# Altium footprint library SWITCH_ROTARY.PcbLib: 16 footprints
Each footprint in its own frame and in the unit in brackets; x right, y up, seen from the top. Pads: shape width x height; smd on the part's side, far side on the other; paste and mask are expansions set on the pad; w line width, h text height; cw(c..) or ccw(c..) is an arc to the next point about the centre after c.
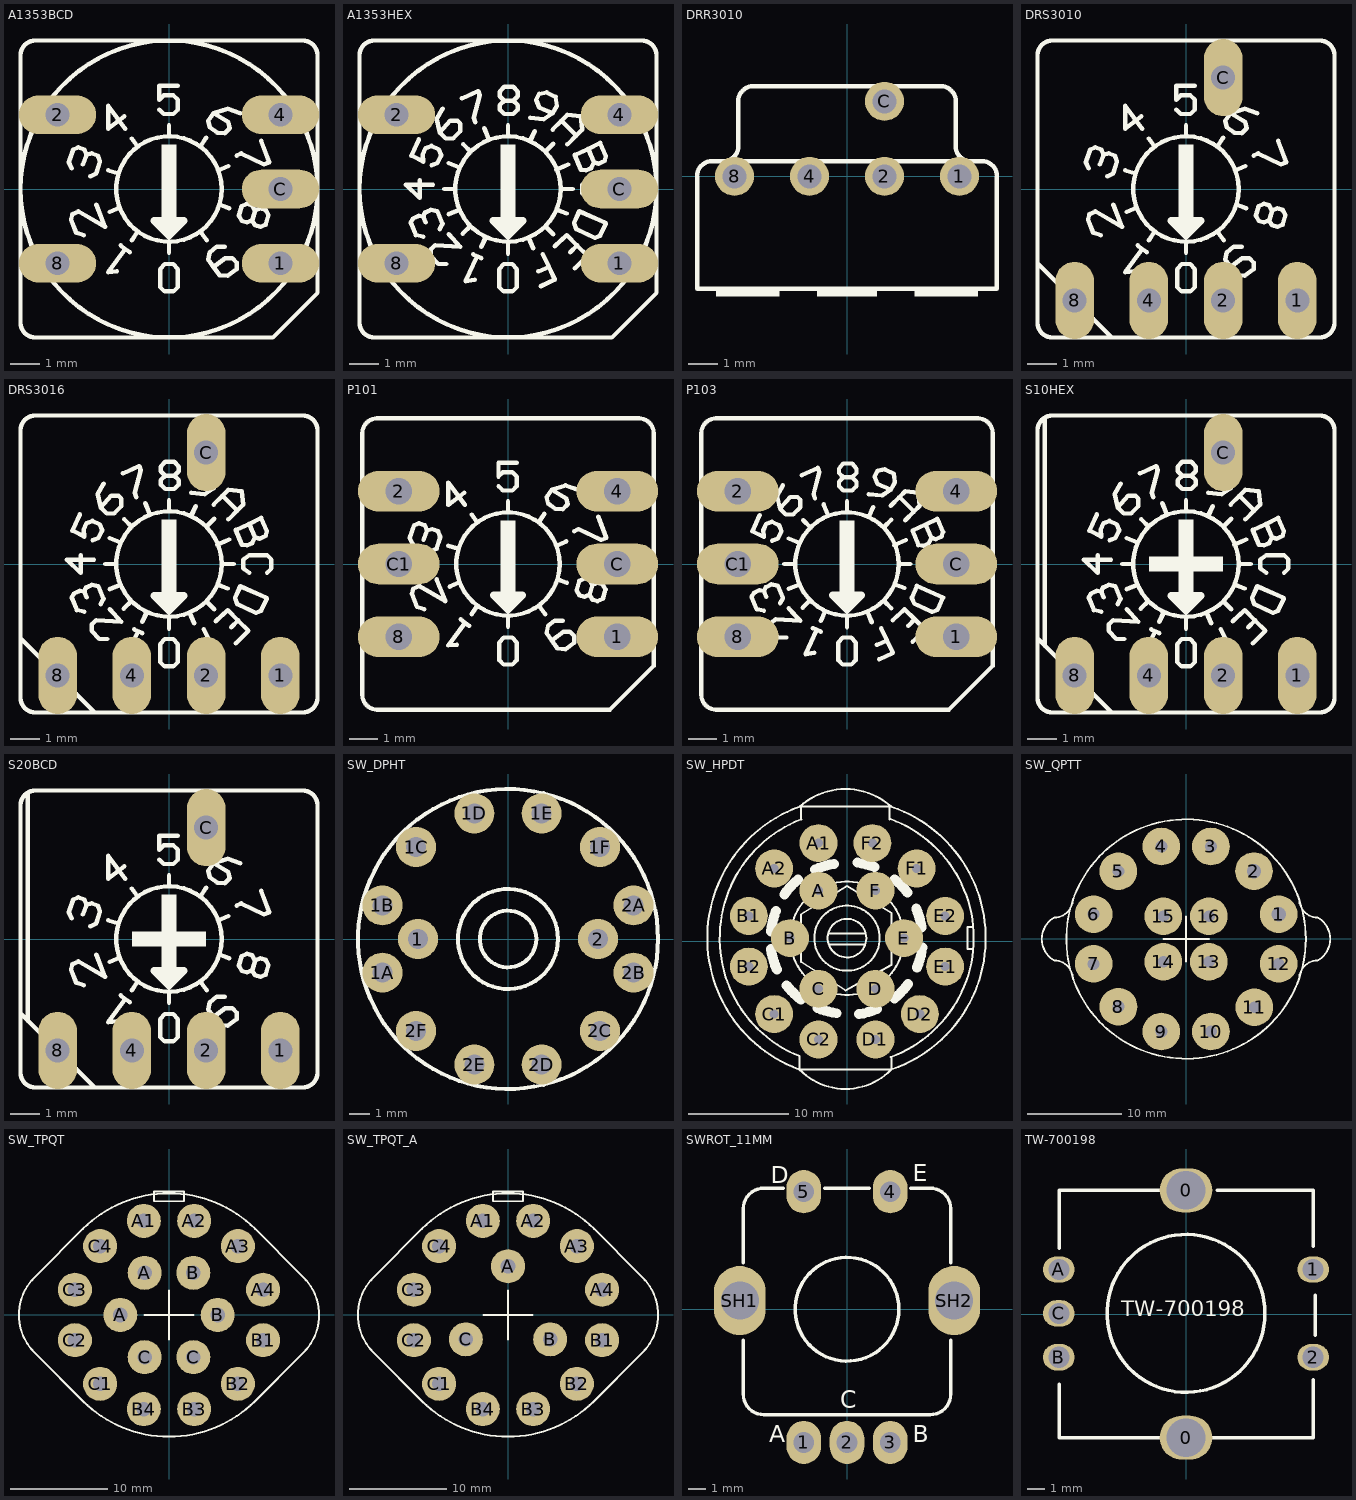
[diagram p0: the footprints below, top view; thin cyan lines are the x and y axes]

## A1353BCD [mil]
pads (5):
  oval 104x52 hole 32: 1(150,-100) 2(-150,100) 4(150,100) 8(-150,-100) C(150,0)
Top Overlay:
  circle w6: c0,0 r71
  circle w6: c0,0 r200
  rectangle: -10,-40 10,60
  lines w6: -131,28 -135,36 -129,53 -122,56 -114,53 -111,46 ; -116,33 -111,46 ; -115,-62 -125,-59 -132,-41 -130,-34 -122,-30 -86,-51 -98,-21 ; -106,17 -98,21 -93,37 -96,45 -104,48 -111,46 ; -82,25 -68,21 ; -80,-31 -66,-25 ; -70,-111 -82,-112 -59,-81 ; -65,-76 -59,-81 ; -60,98 -82,81 -82,112 -59,81 ; -53,-85 -59,-81 ; -50,-69 -42,-57 ; -50,68 -42,57 ; -13,107 -7,101 6,101 12,107 12,120 6,126 -7,126 -13,120 -13,139 12,139 ; 0,-86 0,-72 ; 0,71 0,86 ; 42,-57 51,-69 ; 42,57 50,69 ; 66,25 80,31 ; 68,-21 81,-26 ; 75,-78 64,-78 55,-85 53,-95 60,-105 ; 91,45 97,48 128,33 135,36 124,65 ; 96,102 79,108 60,102 ; 60,-105 76,-93 85,-93 91,-99 91,-108 79,-117 68,-116 60,-105 ; 60,102 80,90 82,82 75,75 65,76 55,83 53,92 60,102 ; 112,-42 116,-29 ; 112,-42 105,-45 98,-43 94,-36 98,-23 105,-20 112,-22 116,-29 ; 112,-42 116,-49 123,-51 130,-48 134,-35 130,-28 123,-26 116,-29 ; -200,-180 ccw(c-180,-180) -180,-200 140,-200 200,-140 200,180 ccw(c180,180) 180,200 -180,200 ccw(c-180,180) -200,180 -200,-180 ; -12,-132 -12,-108 -6,-101 6,-101 12,-108 12,-132 6,-138 -6,-138 -12,-132
  lines w10: -10,-48 10,-48 ; 0,-58 0,-53 ; -20,-43 0,-63 20,-43 -20,-43

## A1353HEX [mil]
pads (5):
  oval 104x52 hole 32: 1(150,-100) 2(-150,100) 4(150,100) 8(-150,-100) C(150,0)
Top Overlay:
  circle w6: c0,0 r200
  circle w6: c0,0 r71
  rectangle: -10,-40 10,60
  lines w6: -120,67 -130,45 -114,37 -115,46 -111,55 -103,58 -93,53 -90,45 -95,35 -103,32 ; -119,12 -119,-12 -138,6 -101,6 ; -114,-64 -124,-62 -131,-45 -128,-40 -120,-36 -114,-37 ; -111,-45 -114,-37 ; -92,-54 -88,-47 -95,-30 -104,-28 -112,-32 -114,-37 ; -88,108 -96,94 -92,76 ; -86,0 -71,0 ; -83,-101 -94,-101 -104,-90 -104,-81 -98,-76 -64,-78 -80,-61 ; -80,-34 -65,-28 ; -80,35 -65,29 ; -62,122 -40,132 -38,126 -46,96 -44,90 ; -61,-60 -51,-50 ; -60,60 -50,50 ; -47,-88 -36,-93 ; -45,-122 -57,-124 -42,-91 ; -36,-78 -30,-65 ; -32,82 -26,67 ; 0,-87 0,-72 ; 0,71 0,86 ; 28,-66 34,-80 ; 30,65 36,78 ; 30,96 48,94 60,102 ; 41,-111 55,-105 ; 44,-131 63,-122 55,-105 ; 47,-88 55,-105 ; 51,-51 61,-61 ; 51,51 61,61 ; 60,80 72,92 ; 63,-77 79,-62 93,-76 ; 65,26 81,33 ; 66,-28 79,-33 ; 72,0 87,0 ; 80,60 92,72 ; 84,-85 93,-76 ; 90,-107 107,-90 93,-76 ; 108,-12 100,-6 100,6 108,12 132,12 138,6 138,-6 132,-12 ; -92,76 -84,68 -74,68 -64,78 -64,88 -68,92 -78,92 -92,76 ; -5,119 7,119 ; -5,119 -11,113 -11,107 -5,101 7,101 13,107 13,113 7,119 ; -5,119 -11,125 -11,131 -5,138 7,138 13,131 13,125 7,119 ; 60,102 66,112 64,124 52,130 42,128 38,120 42,110 60,102 ; 72,92 80,100 98,98 100,80 92,72 ; 72,92 92,72 ; 108,54 124,62 132,44 130,38 122,34 116,36 ; 108,54 116,36 ; 108,54 90,46 98,26 105,25 112,28 116,36 ; -200,-180 ccw(c-180,-180) -180,-200 140,-200 200,-140 200,180 ccw(c180,180) 180,200 -180,200 ccw(c-180,180) -200,180 -200,-180 ; -12,-132 -6,-138 6,-138 12,-132 12,-108 6,-101 -6,-101 -12,-108 -12,-132 ; 89,-46 92,-54 117,-66 124,-63 132,-46 96,-30 89,-46
  lines w10: -10,-48 10,-48 ; 0,-58 0,-53 ; -20,-43 20,-43 0,-63 -20,-43

## DRR3010 [mil]
pads (5):
  round 52 hole 32: 1(150,0) 2(50,0) 4(-50,0) 8(-150,0) C(50,100)
Top Overlay:
  rectangle: -40,-160 40,-150
  rectangle: 90,-160 175,-150
  rectangle: -175,-160 -90,-150
  lines w6: -165,20 ccw(c-165,40) -145,40 -145,100 cw(c-125,100) -125,120 15,120 85,120 125,120 cw(c125,100) 145,100 145,40 ccw(c165,40) 165,20 ; -200,-150 200,-150 200,0 ccw(c180,0) 180,20 120,20 80,20 20,20 -20,20 -80,20 -120,20 -180,20 ccw(c-180,0) -200,0 -200,-150

## DRS3010 [mil]
pads (5):
  oval 52x104 hole 32: 1(150,-150) 2(50,-150) 4(-50,-150) 8(-150,-150) C(50,150)
Top Overlay:
  circle w6: c0,0 r71
  rectangle: -10,-40 10,60
  lines w6: -131,28 -135,36 -129,53 -122,56 -114,53 -111,46 ; -116,33 -111,46 ; -115,-62 -125,-59 -132,-41 -130,-34 -122,-30 -86,-51 -98,-21 ; -106,17 -98,21 -93,37 -96,45 -104,48 -111,46 ; -82,25 -68,21 ; -80,-31 -66,-25 ; -70,-111 -82,-112 -59,-81 ; -65,-76 -59,-81 ; -60,98 -82,81 -82,112 -59,81 ; -53,-85 -59,-81 ; -50,-69 -42,-57 ; -50,68 -42,57 ; -13,107 -7,101 6,101 12,107 12,120 6,126 -7,126 -13,120 -13,139 12,139 ; 0,-86 0,-72 ; 0,71 0,86 ; 42,-57 51,-69 ; 42,57 50,69 ; 66,25 80,31 ; 68,-21 81,-26 ; 75,-78 64,-78 55,-85 53,-95 60,-105 ; 91,45 97,48 128,33 135,36 124,65 ; 96,102 79,108 60,102 ; -200,-100 -200,-180 ccw(c-180,-180) -180,-200 -100,-200 ; -200,-100 -200,180 cw(c-180,180) -180,200 180,200 cw(c180,180) 200,180 200,-180 cw(c180,-180) 180,-200 -100,-200 ; -200,-100 -175,-125 -125,-175 -100,-200 ; 60,-105 76,-93 85,-93 91,-99 91,-108 79,-117 68,-116 60,-105 ; 60,102 80,90 82,82 75,75 65,76 55,83 53,92 60,102 ; 112,-42 116,-29 ; 112,-42 105,-45 98,-43 94,-36 98,-23 105,-20 112,-22 116,-29 ; 112,-42 116,-49 123,-51 130,-48 134,-35 130,-28 123,-26 116,-29 ; -12,-132 -12,-108 -6,-101 6,-101 12,-108 12,-132 6,-138 -6,-138 -12,-132
  lines w10: -10,-48 10,-48 ; 0,-58 0,-53 ; -20,-43 0,-63 20,-43 -20,-43

## DRS3016 [mil]
pads (5):
  oval 52x104 hole 32: 1(150,-150) 2(50,-150) 4(-50,-150) 8(-150,-150) C(50,150)
Top Overlay:
  drawing of 153 lines, arcs and shapes, not listed

## P101 [mil]
pads (6):
  oval 112x56 hole 36: 1(150,-100) 2(-150,100) 4(150,100) 8(-150,-100) C(150,0) C1(-150,0)
Top Overlay:
  circle w6: c0,0 r71
  rectangle: -10,-40 10,60
  lines w6: -131,28 -135,36 -129,53 -122,56 -114,53 -111,46 ; -116,33 -111,46 ; -115,-62 -125,-59 -132,-41 -130,-34 -122,-30 -86,-51 -98,-21 ; -106,17 -98,21 -93,37 -96,45 -104,48 -111,46 ; -82,25 -68,21 ; -80,-31 -66,-25 ; -70,-111 -82,-112 -59,-81 ; -65,-76 -59,-81 ; -60,98 -82,81 -82,112 -59,81 ; -53,-85 -59,-81 ; -50,-69 -42,-57 ; -50,68 -42,57 ; -13,107 -7,101 6,101 12,107 12,120 6,126 -7,126 -13,120 -13,139 12,139 ; 0,-86 0,-72 ; 0,71 0,86 ; 42,-57 51,-69 ; 42,57 50,69 ; 66,25 80,31 ; 68,-21 81,-26 ; 75,-78 64,-78 55,-85 53,-95 60,-105 ; 91,45 97,48 128,33 135,36 124,65 ; 96,102 79,108 60,102 ; 60,-105 68,-116 79,-117 91,-108 91,-99 85,-93 76,-93 60,-105 ; 60,102 53,92 55,83 65,76 75,75 82,82 80,90 60,102 ; 112,-42 116,-49 123,-51 130,-48 134,-35 130,-28 123,-26 116,-29 ; 112,-42 105,-45 98,-43 94,-36 98,-23 105,-20 112,-22 116,-29 ; 112,-42 116,-29 ; -200,-180 ccw(c-180,-180) -180,-200 140,-200 200,-140 200,180 ccw(c180,180) 180,200 -180,200 ccw(c-180,180) -200,180 -200,-180 ; -12,-132 -6,-138 6,-138 12,-132 12,-108 6,-101 -6,-101 -12,-108 -12,-132
  lines w10: -10,-48 10,-48 ; 0,-58 0,-53 ; -20,-43 20,-43 0,-63 -20,-43

## P103 [mil]
pads (6):
  oval 112x56 hole 36: 1(150,-100) 2(-150,100) 4(150,100) 8(-150,-100) C(150,0) C1(-150,0)
Top Overlay:
  circle w6: c0,0 r71
  rectangle: -10,-40 10,60
  lines w6: -120,67 -130,45 -114,37 -115,46 -111,55 -103,58 -93,53 -90,45 -95,35 -103,32 ; -119,12 -119,-12 -138,6 -101,6 ; -114,-64 -124,-62 -131,-45 -128,-40 -120,-36 -114,-37 ; -111,-45 -114,-37 ; -92,-54 -88,-47 -95,-30 -104,-28 -112,-32 -114,-37 ; -88,108 -96,94 -92,76 ; -86,0 -71,0 ; -83,-101 -94,-101 -104,-90 -104,-81 -98,-76 -64,-78 -80,-61 ; -80,-34 -65,-28 ; -80,35 -65,29 ; -62,122 -40,132 -38,126 -46,96 -44,90 ; -61,-60 -51,-50 ; -60,60 -50,50 ; -47,-88 -36,-93 ; -45,-122 -57,-124 -42,-91 ; -36,-78 -30,-65 ; -32,82 -26,67 ; 0,-87 0,-72 ; 0,71 0,86 ; 28,-66 34,-80 ; 30,65 36,78 ; 30,96 48,94 60,102 ; 41,-111 55,-105 ; 44,-131 63,-122 55,-105 ; 47,-88 55,-105 ; 51,-51 61,-61 ; 51,51 61,61 ; 60,80 72,92 ; 63,-77 79,-62 93,-76 ; 65,26 81,33 ; 66,-28 79,-33 ; 72,0 87,0 ; 80,60 92,72 ; 84,-85 93,-76 ; 90,-107 107,-90 93,-76 ; 108,-12 100,-6 100,6 108,12 132,12 138,6 138,-6 132,-12 ; -92,76 -84,68 -74,68 -64,78 -64,88 -68,92 -78,92 -92,76 ; -5,119 7,119 ; -5,119 -11,113 -11,107 -5,101 7,101 13,107 13,113 7,119 ; -5,119 -11,125 -11,131 -5,138 7,138 13,131 13,125 7,119 ; 60,102 66,112 64,124 52,130 42,128 38,120 42,110 60,102 ; 72,92 80,100 98,98 100,80 92,72 ; 72,92 92,72 ; 108,54 124,62 132,44 130,38 122,34 116,36 ; 108,54 116,36 ; 108,54 90,46 98,26 105,25 112,28 116,36 ; -200,-180 ccw(c-180,-180) -180,-200 140,-200 200,-140 200,180 ccw(c180,180) 180,200 -180,200 ccw(c-180,180) -200,180 -200,-180 ; -12,-132 -6,-138 6,-138 12,-132 12,-108 6,-101 -6,-101 -12,-108 -12,-132 ; 89,-46 92,-54 117,-66 124,-63 132,-46 96,-30 89,-46
  lines w10: -10,-48 10,-48 ; 0,-58 0,-53 ; -20,-43 20,-43 0,-63 -20,-43

## S10HEX [mil]
pads (5):
  oval 52x104 hole 32: 1(150,-150) 2(50,-150) 4(-50,-150) 8(-150,-150) C(50,150)
Top Overlay:
  drawing of 156 lines, arcs and shapes, not listed

## S20BCD [mil]
pads (5):
  oval 52x104 hole 32: 1(150,-150) 2(50,-150) 4(-50,-150) 8(-150,-150) C(50,150)
Top Overlay:
  circle w6: c0,0 r71
  rectangle: -50,-10 50,10
  rectangle: -10,-40 10,60
  lines w6: -190,195 -190,-110 ; -131,28 -135,36 -129,53 -122,56 -114,53 -111,46 ; -116,33 -111,46 ; -115,-62 -125,-59 -132,-41 -130,-34 -122,-30 -86,-51 -98,-21 ; -106,17 -98,21 -93,37 -96,45 -104,48 -111,46 ; -82,25 -68,21 ; -80,-31 -66,-25 ; -70,-111 -82,-112 -59,-81 ; -65,-76 -59,-81 ; -60,98 -82,81 -82,112 -59,81 ; -53,-85 -59,-81 ; -50,-69 -42,-57 ; -50,68 -42,57 ; -13,107 -7,101 6,101 12,107 12,120 6,126 -7,126 -13,120 -13,139 12,139 ; 0,-86 0,-72 ; 0,71 0,86 ; 42,-57 51,-69 ; 42,57 50,69 ; 66,25 80,31 ; 68,-21 81,-26 ; 75,-78 64,-78 55,-85 53,-95 60,-105 ; 91,45 97,48 128,33 135,36 124,65 ; 96,102 79,108 60,102 ; -200,-100 -190,-110 ; -200,-100 -200,180 cw(c-180,180) -180,200 180,200 cw(c180,180) 200,180 200,-180 cw(c180,-180) 180,-200 -100,-200 ; -200,-100 -200,-180 ccw(c-180,-180) -180,-200 -100,-200 ; -190,-110 -175,-125 -125,-175 -100,-200 ; 60,-105 68,-116 79,-117 91,-108 91,-99 85,-93 76,-93 60,-105 ; 60,102 53,92 55,83 65,76 75,75 82,82 80,90 60,102 ; 112,-42 116,-49 123,-51 130,-48 134,-35 130,-28 123,-26 116,-29 ; 112,-42 105,-45 98,-43 94,-36 98,-23 105,-20 112,-22 116,-29 ; 112,-42 116,-29 ; -12,-132 -6,-138 6,-138 12,-132 12,-108 6,-101 -6,-101 -12,-108 -12,-132
  lines w10: -10,-48 10,-48 ; 0,-58 0,-53 ; -20,-43 20,-43 0,-63 -20,-43

## SW_DPHT [mm] "SWITCH SELECTOR, DUAL POS TO SIX TERMINAL"
pads (14):
  round 2 hole 1: 1(-4.5,0) 1A(-6.279,-1.682) 1B(-6.279,1.682) 1C(-4.596,4.596) 1D(-1.682,6.279) 1E(1.682,6.279) 1F(4.596,4.596) 2(4.5,0) 2A(6.279,1.682) 2B(6.279,-1.682) 2C(4.596,-4.596) 2D(1.682,-6.279) 2E(-1.682,-6.279) 2F(-4.596,-4.596)
Top Overlay:
  circle w0.2: c0,0 r2.5
  circle w0.2: c0,0 r7.5
  circle w0.2: c0,0 r1.414

## SW_HPDT [mil] "SWITCH Selector 6pos, 2 terminal"
pads (18):
  round 150 hole 35: A(-112.5,200) A1(-112.5,387.5) A2(-287.5,287.5) B(-225,12.5) B1(-387.5,100) B2(-387.5,-100) C(-112.5,-187.5) C1(-287.5,-287.5) C2(-112.5,-387.5) D(112.5,-187.5) D1(112.5,-387.5) D2(287.5,-287.5) E(225,12.5) E1(387.5,-100) E2(387.5,100) F(112.5,200) F1(275,287.5) F2(100,387.5)
Top Overlay:
  circle w7.87: c0,12.5 r223.78
  circle w7.87: c0,12.5 r128.85
  circle w7.87: c0,12.5 r76.29
  lines w7.87: -188.66,-505.83 cw(c0,12.5) -188.66,530.83 ; -188.27,-453.48 cw(c0,12.5) -180.11,481.69 ; -187.5,-456.25 -187.5,-506.25 ; -187.5,531.25 175,531.25 ; -186.86,531.83 cw(c-6.25,331.25) 174.36,531.83 ; -181.25,481.25 -181.25,531.25 ; -68.75,-12.5 68.75,-12.5 ; -68.75,31.25 68.75,31.25 ; 168.75,481.25 168.75,531.25 ; 171.13,-457.68 ccw(c0,12.5) 171.13,482.68 ; 175,-456.25 175,-506.25 ; 178.24,-505.15 ccw(c0,12.5) 178.24,530.15 ; 493.75,-31.25 475,-31.25 475,56.25 493.75,56.25 ; -187.48,-506.27 ccw(c-6.25,-331.25) 174.98,-506.27 ; -187.5,-506.25 175,-506.25 ; -181.25,-81.25 -181.25,106.25 0,218.75 175,112.5 175,-93.75 -6.25,-193.75 -181.25,-81.25
  lines w39.37: -300.22,-29.69 ccw(c0,12.5) -276.96,-110.81 ; -299.51,38.7 cw(c0,12.5) -280.68,120.24 ; -247.13,185.54 cw(c0,12.5) -193.92,243.61 ; -238.45,-173.79 ccw(c0,12.5) -182.11,-229.16 ; -125.93,282.56 cw(c0,12.5) -51.74,305.95 ; -117.04,-263.23 ccw(c0,12.5) -41.69,-284.13 ; 41.84,310.22 cw(c0,12.5) 107.74,293.18 ; 47.58,-287.89 ccw(c0,12.5) 118.84,-267.46 ; 187.36,-225.12 ccw(c0,6.25) 240.85,-168.74 ; 188.02,244.68 cw(c0,12.5) 238.6,192.3 ; 273.38,128.54 cw(c0,12.5) 294.1,53.83 ; 275.73,-104.54 ccw(c0,12.5) 297.31,-24.01

## SW_QPTT [mm]
pads (16):
  round 4 hole 1.524: 1(9.815,2.627) 2(7.199,7.199)
  round 4 hole 1.27: 3(2.627,9.815) 4(-2.631,9.815) 5(-7.19,7.187) 6(-9.815,2.628) 7(-9.815,-2.631) 8(-7.186,-7.186) 9(-2.631,-9.815) 10(2.628,-9.815) 11(7.237,-7.241) 12(9.812,-2.631) 13(2.411,-2.415) 14(-2.415,-2.415) 15(-2.415,2.411) 16(2.411,2.411)
Top Overlay:
  circle w0.2: c-0.002,-0.002 r12.7
  lines w0.2: -13.972,-2.288 cw(c-13.972,-4.243) -12.016,-4.243 ; -13.972,2.284 ccw(c-13.972,4.24) -12.016,4.24 ; -13.969,-2.289 cw(c-12.702,-0.002) -13.969,2.286 ; -2.415,-0.002 2.411,-0.002 ; -0.002,-2.415 -0.002,2.411 ; 11.987,-4.243 cw(c13.943,-4.243) 13.943,-2.288 ; 11.987,4.24 ccw(c13.943,4.24) 13.943,2.284 ; 13.941,-2.289 ccw(c12.673,-0.002) 13.941,2.286

## SW_TPQT [mm] "SWITCH Selector Three pos, 4 terminal"
pads (18):
  round 3.5 hole 1.5: A(-5.004,0) A(-2.502,4.333) A1(-2.59,9.667) A2(2.59,9.667) A3(7.076,7.076) A4(9.667,2.59) B(2.502,4.333) B(5.004,0) B1(9.667,-2.59) B2(7.076,-7.076) B3(2.59,-9.667) B4(-2.59,-9.667) C(-2.502,-4.333) C(2.502,-4.333) C1(-7.076,-7.076) C2(-9.667,-2.59) C3(-9.667,2.59) C4(-7.076,7.076)
Top Overlay:
  lines w0.2: -13.59,-4.091 cw(c-9.906,0) -15.411,0 cw(c-9.906,0) -13.59,4.091 ; -13.589,-4.089 -8.839,-8.839 ccw(c0,0) 0,-12.501 ccw(c0,0) 8.84,-8.84 13.589,-4.089 ; -13.589,4.089 -8.839,8.839 cw(c0,0) 0,12.501 cw(c0,0) 8.84,8.84 13.589,4.089 ; -2.54,0 2.54,0 ; 0,-2.54 0,2.54 ; 13.59,-4.091 ccw(c9.906,0) 15.411,0 ccw(c9.906,0) 13.59,4.091 ; -1.524,11.684 -1.524,12.7 0,12.7 1.524,12.7 1.524,11.684 -1.524,11.684

## SW_TPQT_A [mm] "SWITCH Selector Three pos, 4 terminal"
pads (15):
  round 3.5 hole 1.5: A(0,5.004) A1(-2.59,9.667) A2(2.59,9.667) A3(7.076,7.076) A4(9.667,2.59) B(4.333,-2.502) B1(9.667,-2.59) B2(7.076,-7.076) B3(2.59,-9.667) B4(-2.59,-9.667) C(-4.333,-2.502) C1(-7.076,-7.076) C2(-9.667,-2.59) C3(-9.667,2.59) C4(-7.076,7.076)
Top Overlay:
  lines w0.2: -13.59,-4.091 cw(c-9.906,0) -15.411,0 cw(c-9.906,0) -13.59,4.091 ; -13.589,-4.089 -8.839,-8.839 ccw(c0,0) 0,-12.501 ccw(c0,0) 8.84,-8.84 13.589,-4.089 ; -13.589,4.089 -8.839,8.839 cw(c0,0) 0,12.501 cw(c0,0) 8.84,8.84 13.589,4.089 ; -2.54,0 2.54,0 ; 0,-2.54 0,2.54 ; 13.59,-4.091 ccw(c9.906,0) 15.411,0 ccw(c9.906,0) 13.59,4.091 ; -1.524,11.684 -1.524,12.7 0,12.7 1.524,12.7 1.524,11.684 -1.524,11.684

## SWROT_11MM [mm] "Alps Encoder+ sw"
height 4
pads (7):
  oval 2x2.5 hole 1.2: 1(-2.5,-7.7) 2(0,-7.7) 3(2.5,-7.7) 4(2.5,6.8) 5(-2.5,6.8)
  oval 3x4 hole 2.2: SH1(-6.2,0.5)
  oval 3x4 hole 2.2 unplated: SH2(6.2,0.5)
Top Overlay:
  circle w0.2: c0,0 r3
  lines w0.2: -6,-1.8 -6,-4.91 ccw(c-4.81,-4.91) -4.81,-6.1 4.81,-6.1 ccw(c4.81,-4.91) 6,-4.91 6,-1.8 ; -6,2.7 -6,5.81 cw(c-4.81,5.81) -4.81,7 -3.7,7 ; -1.3,7 1.3,7 ; 3.7,7 4.81,7 cw(c4.81,5.81) 6,5.81 6,2.7
  text "E" at 3.8,7.4 h1
  text "D" at -4.4,7.3 h1
  text "C" at -0.4,-5.7 h1
  text "B" at 3.8,-7.7 h1
  text "A" at -4.5,-7.7 h1
3D body "SW3dPS-Encoder Alpha RE111F-41B3N-15F-20P.STEP": height 21.2, standoff -3.28, extent -6.845,-7.83 6.808,7

## TW-700198 [mm] "ROTARY ENCODER"
pads (7):
  oval 3x2.5 hole 2.2: 0(0,-7.048) 0(0,7.048)
  oval 1.8x1.5 hole 1.2: 1(7.25,2.536) 2(7.25,-2.464) A(-7.25,2.536) B(-7.25,-2.464) C(-7.25,0.036)
Top Overlay:
  circle w0.2: c0,0.036 r4.5
  lines w0.2: -7.235,-4 -7.235,-7.048 -1.52,-7.048 ; -7.235,3.746 -7.235,7.048 -1.393,7.048 ; 1.147,-7.048 7.243,-7.048 7.243,-3.746 ; 1.782,7.048 7.243,7.048 7.243,3.873 ; 7.37,-1.206 7.37,1.079
  text "TW-700198" at -3.679,-0.445 h1.52